# Altium footprint library OPA4863PWR.PcbLib: 3 footprints
Each footprint in its own frame and in the unit in brackets; x right, y up, seen from the top. Pads: shape width x height; smd on the part's side, far side on the other; paste and mask are expansions set on the pad; w line width, h text height; cw(c..) or ccw(c..) is an arc to the next point about the centre after c.
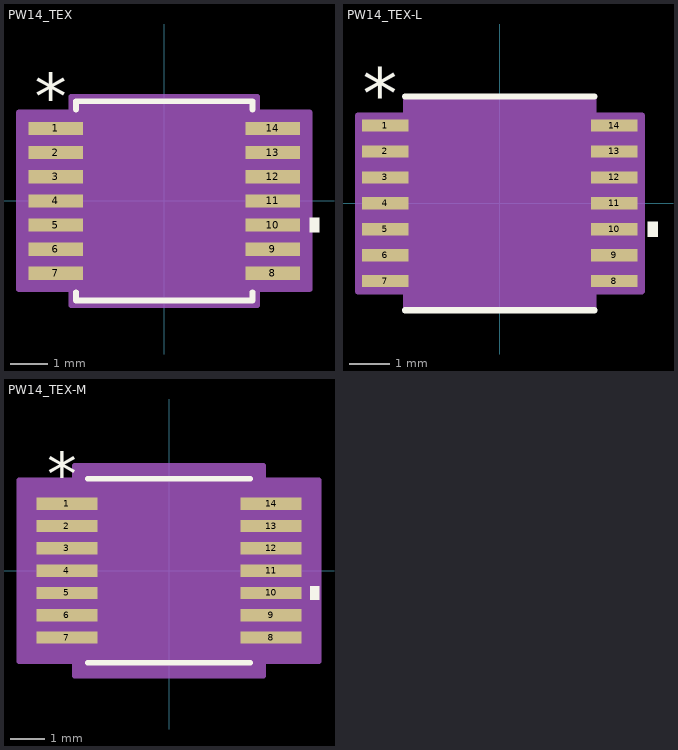
[diagram p0: the footprints below, top view; thin cyan lines are the x and y axes]

## PW14_TEX [mil]
pads (14):
  rect 58x14 smd paste+0 mask+0: 1(-115,76.77) 2(-115,51.18) 3(-115,25.59) 4(-115,0) 5(-115,-25.59) 6(-115,-51.18) 7(-115,-76.77) 8(115,-76.77) 9(115,-51.18) 10(115,-25.59) 11(115,0) 12(115,25.59) 13(115,51.18) 14(115,76.77)
Top Overlay:
  region: 154,-18.09 164,-18.09 164,-33.09 154,-33.09
  lines w6: -93.5,-96.87 -93.5,-105.5 93.5,-105.5 93.5,-96.87 ; -93.5,96.87 -93.5,105.5 93.5,105.5 93.5,96.87
  text "*" at -137.5,85.77 h50
Mechanical 13:
  lines w0: -12,100.5 ccw(c0,100.5) 12,100.5
  lines w1: -130,-82.77 -130,-70.77 -88.5,-70.77 -88.5,-82.77 -130,-82.77 ; -130,-57.18 -130,-45.18 -88.5,-45.18 -88.5,-57.18 -130,-57.18 ; -130,-31.59 -130,-19.59 -88.5,-19.59 -88.5,-31.59 -130,-31.59 ; -130,-6 -130,6 -88.5,6 -88.5,-6 -130,-6 ; -130,19.59 -130,31.59 -88.5,31.59 -88.5,19.59 -130,19.59 ; -130,45.18 -130,57.18 -88.5,57.18 -88.5,45.18 -130,45.18 ; -130,70.77 -130,82.77 -88.5,82.77 -88.5,70.77 -130,70.77 ; -88.5,-100.5 88.5,-100.5 88.5,100.5 -88.5,100.5 -88.5,-100.5 ; 88.5,-82.77 88.5,-70.77 130,-70.77 130,-82.77 88.5,-82.77 ; 88.5,-57.18 88.5,-45.18 130,-45.18 130,-57.18 88.5,-57.18 ; 88.5,-31.59 88.5,-19.59 130,-19.59 130,-31.59 88.5,-31.59 ; 88.5,-6 88.5,6 130,6 130,-6 88.5,-6 ; 88.5,19.59 88.5,31.59 130,31.59 130,19.59 88.5,19.59 ; 88.5,45.18 88.5,57.18 130,57.18 130,45.18 88.5,45.18 ; 88.5,70.77 88.5,82.77 130,82.77 130,70.77 88.5,70.77
  text "*" at -86,47.5 h50
Mechanical 15:
  region: -98.5,-93.77 -154,-93.77 -154,93.77 -98.5,93.77 -98.5,110.5 98.5,110.5 98.5,93.77 154,93.77 154,-93.77 98.5,-93.77 98.5,-110.5 -98.5,-110.5
  lines w6: -154,-93.77 -154,93.77 -98.5,93.77 -98.5,110.5 98.5,110.5 98.5,93.77 154,93.77 154,-93.77 98.5,-93.77 98.5,-110.5 -98.5,-110.5 -98.5,-93.77 -154,-93.77
3D body "PW14_TEX.step": height 47.09, standoff 0, extent -130,-100.51 130,100.51

## PW14_TEX-L [mil]
pads (14):
  rect 46x12 smd paste+0 mask+0: 1(-113,76.77) 2(-113,51.18) 3(-113,25.59) 4(-113,0) 5(-113,-25.59) 6(-113,-51.18) 7(-113,-76.77) 8(113,-76.77) 9(113,-51.18) 10(113,-25.59) 11(113,0) 12(113,25.59) 13(113,51.18) 14(113,76.77)
Top Overlay:
  region: 146,-18.09 156,-18.09 156,-33.09 146,-33.09
  lines w6: -93.5,-105.5 93.5,-105.5 ; -93.5,105.5 93.5,105.5
  text "*" at -135.5,83.77 h50
Mechanical 13:
  lines w0: -12,100.5 ccw(c0,100.5) 12,100.5
  lines w1: -130,-82.77 -130,-70.77 -88.5,-70.77 -88.5,-82.77 -130,-82.77 ; -130,-57.18 -130,-45.18 -88.5,-45.18 -88.5,-57.18 -130,-57.18 ; -130,-31.59 -130,-19.59 -88.5,-19.59 -88.5,-31.59 -130,-31.59 ; -130,-6 -130,6 -88.5,6 -88.5,-6 -130,-6 ; -130,19.59 -130,31.59 -88.5,31.59 -88.5,19.59 -130,19.59 ; -130,45.18 -130,57.18 -88.5,57.18 -88.5,45.18 -130,45.18 ; -130,70.77 -130,82.77 -88.5,82.77 -88.5,70.77 -130,70.77 ; -88.5,-100.5 88.5,-100.5 88.5,100.5 -88.5,100.5 -88.5,-100.5 ; 88.5,-82.77 88.5,-70.77 130,-70.77 130,-82.77 88.5,-82.77 ; 88.5,-57.18 88.5,-45.18 130,-45.18 130,-57.18 88.5,-57.18 ; 88.5,-31.59 88.5,-19.59 130,-19.59 130,-31.59 88.5,-31.59 ; 88.5,-6 88.5,6 130,6 130,-6 88.5,-6 ; 88.5,19.59 88.5,31.59 130,31.59 130,19.59 88.5,19.59 ; 88.5,45.18 88.5,57.18 130,57.18 130,45.18 88.5,45.18 ; 88.5,70.77 88.5,82.77 130,82.77 130,70.77 88.5,70.77
  text "*" at -86,47.5 h50
Mechanical 15:
  region: -92.5,-86.77 -140,-86.77 -140,86.77 -92.5,86.77 -92.5,104.5 92.5,104.5 92.5,86.77 140,86.77 140,-86.77 92.5,-86.77 92.5,-104.5 -92.5,-104.5
  lines w6: -140,-86.77 -140,86.77 -92.5,86.77 -92.5,104.5 92.5,104.5 92.5,86.77 140,86.77 140,-86.77 92.5,-86.77 92.5,-104.5 -92.5,-104.5 -92.5,-86.77 -140,-86.77
3D body "PW14_TEX.step": height 47.09, standoff 0, extent -130,-100.51 130,100.51

## PW14_TEX-M [mil]
pads (14):
  rect 70x14 smd paste+0 mask+0: 1(-117,76.77) 2(-117,51.18) 3(-117,25.59) 4(-117,0) 5(-117,-25.59) 6(-117,-51.18) 7(-117,-76.77) 8(117,-76.77) 9(117,-51.18) 10(117,-25.59) 11(117,0) 12(117,25.59) 13(117,51.18) 14(117,76.77)
Top Overlay:
  region: 162,-18.09 172,-18.09 172,-33.09 162,-33.09
  lines w6: -93.5,-105.5 93.5,-105.5 ; -93.5,105.5 93.5,105.5
  text "*" at -139.5,85.77 h50
Mechanical 13:
  lines w0: -12,100.5 ccw(c0,100.5) 12,100.5
  lines w1: -130,-82.77 -130,-70.77 -88.5,-70.77 -88.5,-82.77 -130,-82.77 ; -130,-57.18 -130,-45.18 -88.5,-45.18 -88.5,-57.18 -130,-57.18 ; -130,-31.59 -130,-19.59 -88.5,-19.59 -88.5,-31.59 -130,-31.59 ; -130,-6 -130,6 -88.5,6 -88.5,-6 -130,-6 ; -130,19.59 -130,31.59 -88.5,31.59 -88.5,19.59 -130,19.59 ; -130,45.18 -130,57.18 -88.5,57.18 -88.5,45.18 -130,45.18 ; -130,70.77 -130,82.77 -88.5,82.77 -88.5,70.77 -130,70.77 ; -88.5,-100.5 88.5,-100.5 88.5,100.5 -88.5,100.5 -88.5,-100.5 ; 88.5,-82.77 88.5,-70.77 130,-70.77 130,-82.77 88.5,-82.77 ; 88.5,-57.18 88.5,-45.18 130,-45.18 130,-57.18 88.5,-57.18 ; 88.5,-31.59 88.5,-19.59 130,-19.59 130,-31.59 88.5,-31.59 ; 88.5,-6 88.5,6 130,6 130,-6 88.5,-6 ; 88.5,19.59 88.5,31.59 130,31.59 130,19.59 88.5,19.59 ; 88.5,45.18 88.5,57.18 130,57.18 130,45.18 88.5,45.18 ; 88.5,70.77 88.5,82.77 130,82.77 130,70.77 88.5,70.77
  text "*" at -86,47.5 h50
Mechanical 15:
  region: -108.5,-103.77 -172,-103.77 -172,103.77 -108.5,103.77 -108.5,120.5 108.5,120.5 108.5,103.77 172,103.77 172,-103.77 108.5,-103.77 108.5,-120.5 -108.5,-120.5
  lines w6: -172,-103.77 -172,103.77 -108.5,103.77 -108.5,120.5 108.5,120.5 108.5,103.77 172,103.77 172,-103.77 108.5,-103.77 108.5,-120.5 -108.5,-120.5 -108.5,-103.77 -172,-103.77
3D body "PW14_TEX.step": height 47.09, standoff 0, extent -130,-100.51 130,100.51